# Altium integrated library B8B-XH-A_LF__SN_.IntLib: 1 symbol
Pins are listed as number, name and electrical type; pins without a type are passive.

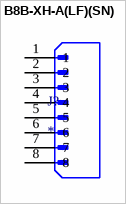
[diagram p0: symbol B8B-XH-A(LF)(SN)]

## B8B-XH-A(LF)(SN)
designator J?
Connector Header Through Hole 8 position 0.098 (2.50mm); MP: B8B-XH-A(LF)(SN); MF: JST Sales America Inc.; Availability: In Stock; SnapEDA_Link: https://www.snapeda.com/parts/B8B-XH-A(LF)(SN)/JST+Sales+America+Inc./view-part/?ref=snap; Check_prices: https://www.snapeda.com/parts/B8B-XH-A(LF)(SN)/JST+Sales+America+Inc./view-part/?ref=eda; Purchase-URL: https://pricing.snapeda.com/search/part/B8B-XH-A(LF)(SN)/?ref=eda; Package: None; Price: None; Value: *
footprint JST_B8B-XH-A(LF)(SN)
pins: 1, 2, 3, 4, 5, 6, 7, 8